# Altium schematic symbol library PCA9536.SchLib: 1 symbol
Pins are listed as number, name and electrical type; pins without a type are passive.

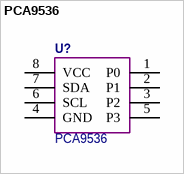
[diagram p0: symbol PCA9536]

## PCA9536
designator U?  Manufacturer Part Number: PCA9536  (hidden comment: *)
pins: 1 P0, 2 P1, 3 P2, 4 GND, 5 P3, 6 SCL, 7 SDA, 8 VCC